# EAGLE library part RPI_CUBESAT_BUS_V1 (library stephen)
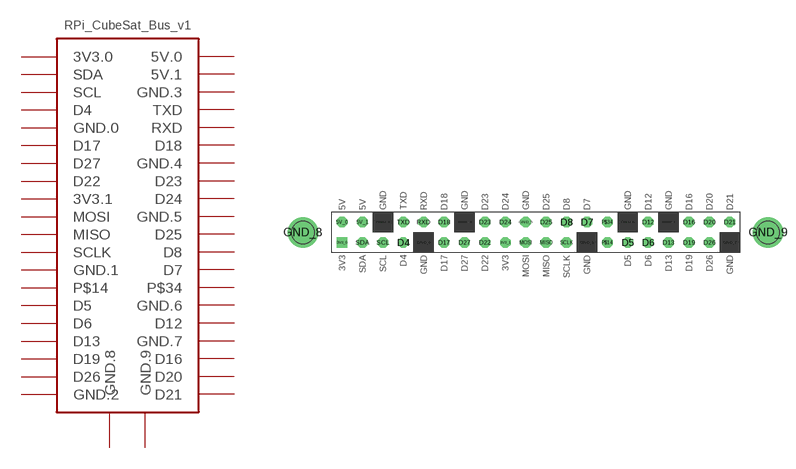
[diagram p2: symbol with the pads of RPI_CUBESAT_BUS; footprint RPI_CUBESAT_BUS]

Designator prefix -

## RPI_CUBESAT_BUS_V1  [RPI_CUBESAT_BUS]
3V3_0  3V3.0
3V3_1  3V3.1
5V_0  5V.0
5V_1  5V.1
D4  D4
D5  D5
D6  D6
D7  D7
D8  D8
D12  D12
D13  D13
D16  D16
D17  D17
D18  D18
D19  D19
D20  D20
D21  D21
D22  D22
D23  D23
D24  D24
D25  D25
D26  D26
D27  D27
GND_0  GND.0
GND_1  GND.1
GND_2  GND.2
GND_3  GND.3
GND_4  GND.4
GND_5  GND.5
GND_6  GND.6
GND_7  GND.7
GND_8  GND.8
GND_9  GND.9
MISO  MISO
MOSI  MOSI
P$14  P$14
P$34  P$34
RXD  RXD
SCL  SCL
SCLK  SCLK
SDA  SDA
TXD  TXD

## Footprint RPI_CUBESAT_BUS (pad centres in mm)
drill 0.8 pad 1.27 square: 3V3_0 0,0
drill 0.8 pad 1.27 octagon: 3V3_1 20.32,0; 5V_0 0,2.54; 5V_1 2.54,2.54; D4 7.62,0; D5 35.56,0; D6 38.1,0; D7 30.48,2.54; D8 27.94,2.54; D12 38.1,2.54; D13 40.64,0; D16 43.18,2.54; D17 12.7,0; D18 12.7,2.54; D19 43.18,0; D20 45.72,2.54; D21 48.26,2.54; D22 17.78,0; D23 17.78,2.54; D24 20.32,2.54; D25 25.4,2.54; D26 45.72,0; D27 15.24,0; GND_0 10.16,0; GND_1 30.48,0; GND_2 48.26,0; GND_3 5.08,2.54; GND_4 15.24,2.54; GND_5 22.86,2.54; GND_6 35.56,2.54; GND_7 40.64,2.54; MISO 25.4,0; MOSI 22.86,0; P$14 33.02,0; P$34 33.02,2.54; RXD 10.16,2.54; SCL 5.08,0; SCLK 27.94,0; SDA 2.54,0; TXD 7.62,2.54
drill 0.8 pad 3.81: GND_8 -4.879,1.27; GND_9 53.033,1.27
hole 2.8 at -4.879,1.27
hole 2.8 at 53.033,1.27